# EAGLE library part 5-103635-6 (library 5-103635-6)
Check availability <https://pricing.snapeda.com/parts/5-103635-6/TE%20Connectivity/view-part?ref=eda>
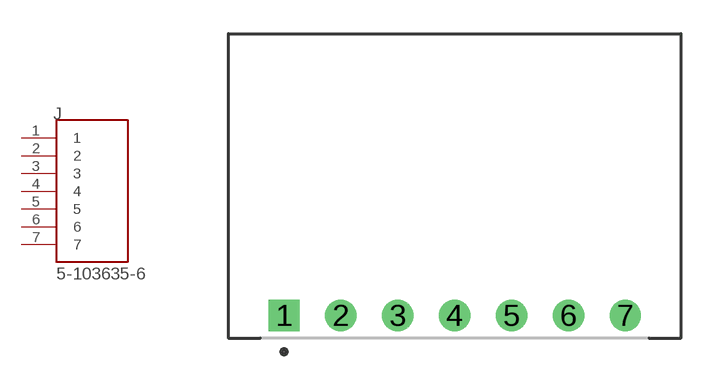
[diagram p0: symbol with the pads of TE_5-103635-6; footprint TE_5-103635-6]

Designator prefix J

## 5-103635-6 (Availability: In Stock; Comment: 5-103635-6; Description: 07 MTE HDR SRRA LTCH.100CL LF; MF: TE Connectivity; MP: 5-103635-6; Package: None; Price: None; Purchase-URL: https://pricing.snapeda.com/search/part/5-103635-6/?ref=eda)  [TE_5-103635-6]
1  1  pas
2  2  pas
3  3  pas
4  4  pas
5  5  pas
6  6  pas
7  7  pas

## Footprint TE_5-103635-6 (pad centres in mm)
drill 0.89 square: 1 -7.62,0
drill 0.89: 2 -5.08,0; 3 -2.54,0; 4 0,0; 5 2.54,0; 6 5.08,0; 7 7.62,0